# Altium footprint library AMPHENOL_10144042-06011LF.PcbLib: 1 footprints
Each footprint in its own frame and in the unit in brackets; x right, y up, seen from the top. Pads: shape width x height; smd on the part's side, far side on the other; paste and mask are expansions set on the pad; w line width, h text height; cw(c..) or ccw(c..) is an arc to the next point about the centre after c.
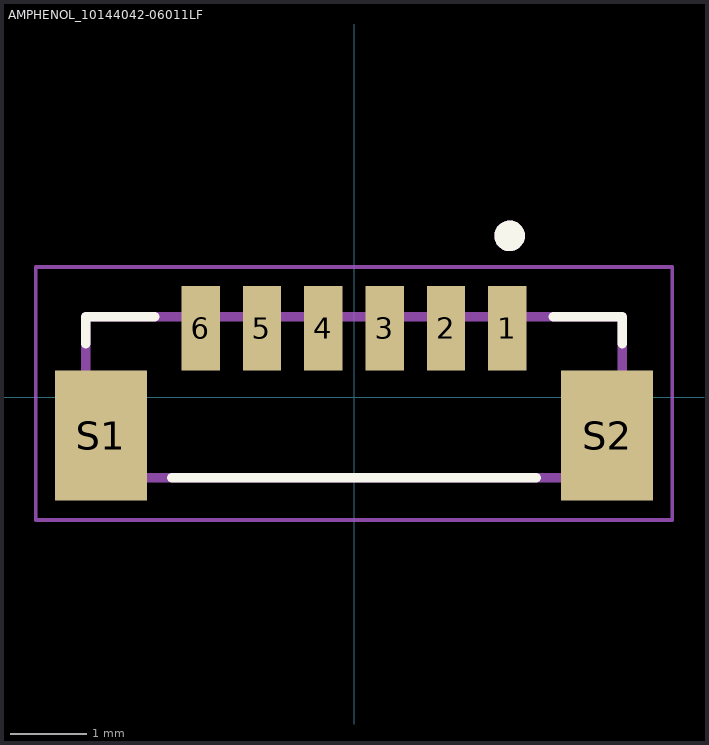
[diagram p0: the footprint, top view; thin cyan lines are the x and y axes]

## AMPHENOL_10144042-06011LF [mm]
pads (8):
  rect 0.5x1.1 smd: 1(2,0.9) 2(1.2,0.9) 3(0.4,0.9) 4(-0.4,0.9) 5(-1.2,0.9) 6(-2,0.9)
  rect 1.2x1.7 smd: S1(-3.3,-0.5) S2(3.3,-0.5)
Top Overlay:
  circle w0.2: c2.029,2.105 r0.1
  lines w0.127: -3.5,0.7 -3.5,1.05 -2.6,1.05 ; -2.375,-1.05 2.375,-1.05 ; 2.6,1.05 3.5,1.05 3.5,0.7
Mechanical 13:
  circle w0.2: c2.029,2.105 r0.1
  lines w0.127: -3.5,-1.05 3.5,-1.05 3.5,1.05 -3.5,1.05 -3.5,-1.05
Mechanical 15:
  lines w0.05: -4.15,-1.6 -4.15,1.7 4.15,1.7 4.15,-1.6 -4.15,-1.6
3D body "step_temp.STEP": height 2.75, standoff 0, extent -3.5,-1.143 3.5,1.257